# EAGLE library part ADG849YKSZ-REEL (library shepherd)
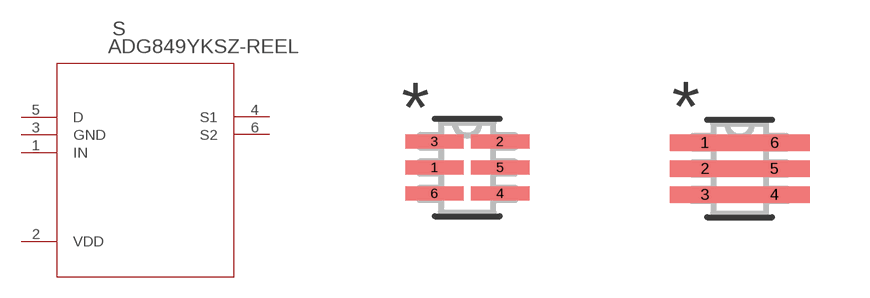
[diagram p3: symbol with the pads of KS_6; footprints KS_6, KS_6-M]

Designator prefix S

## ADG849YKSZ-REEL  [KS_6]
1  IN  pas
2  VDD  pwr
3  GND  pas
4  S1  pas
5  D  pas
6  S2  pas

## ADG849YKSZ-REELKS_6-M  [KS_6-M]
Pads as for KS_6

## ADG849YKSZ-REELKS_6-L  [KS_6-L]
Pads as for KS_6

## Footprint KS_6 (pad centres in mm)
smd 1.46 x 0.356: 1 -0.819,0; 2 0.819,0.65; 3 -0.819,0.65; 4 0.819,-0.65; 5 0.819,0; 6 -0.819,-0.65

## Footprint KS_6-M (pad centres in mm)
smd 1.765 x 0.406: 1 -0.87,0.65; 2 -0.87,0; 3 -0.87,-0.65; 4 0.87,-0.65; 5 0.87,0; 6 0.87,0.65

## Footprint KS_6-L (pad centres in mm)
smd 1.156 x 0.305: 1 -0.768,0.65; 2 -0.768,0; 3 -0.768,-0.65; 4 0.768,-0.65; 5 0.768,0; 6 0.768,0.65